# Altium schematic symbol library Sensors.SchLib: 4 symbols
Pins are listed as number, name and electrical type; pins without a type are passive.

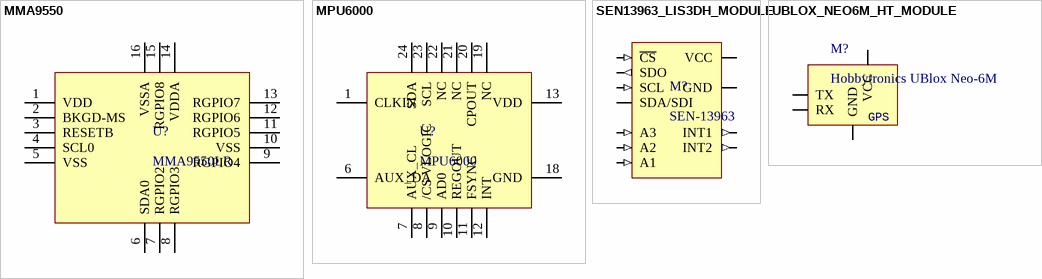
[diagram p0: symbols MMA9550 to UBLOX_NEO6M_HT_MODULE]

## MMA9550
designator U?, comment MMA9550LR
Freescale 3-axis accelerometer
footprint FREESCALE_LGA16_2094 (Freescale LGA16 package layout)
pins: 1 VDD, 2 BKGD-MS, 3 RESETB, 4 SCL0, 5 VSS, 6 SDA0, 7 RGPIO2, 8 RGPIO3, 9 RGPIO4, 10 VSS, 11 RGPIO5, 12 RGPIO6, 13 RGPIO7, 14 VDDA, 15 RGPIO8, 16 VSSA

## MPU6000
designator U?
Invensense MPU6000 6-axis motion sensor; PartNumber: MPU6000
footprint QFN24_4x4_NoHeat_N (QFN, 24-Leads, Body 4.00x4.00mm, Pitch 0.50mm, No Thermal Pad, IPC Medium Density)
pins: 1 CLKIN, 6 AUX_DA, 7 AUX_CL, 8 /CS VLOGIC, 9 AD0, 10 REGOUT, 11 FSYNC, 12 INT, 13 VDD, 18 GND, 19 NC, 20 CPOUT, 21 NC, 22 NC, 23 SCL, 24 SDA

## SEN13963_LIS3DH_MODULE
designator M?, comment SEN-13963
Sparkfun LIS3DH 3-axis accelerometer module; PartNumber: SEN-13963
footprint SEN13963_MODULE (Footprint of SEN13963 module)
pins: 1 INT2 (out), 2 INT1 (out), 3 A3 (in), 4 A2 (in), 5 A1 (in), 8 VCC (power), 9 SDA/SDI (io), 10 SCL (in), 11 SDO (out), 12 ~{CS} (in), GND (power)

## UBLOX_NEO6M_HT_MODULE
designator M?, comment Hobbytronics UBlox Neo-6M
Hobbytronics NEO-6M GPS module; PartNumber: Hobbytronics UBlox Neo-6M
footprint UBLOX_NEO6M_Module (UBlox NEO6M module (Hobbytronics))
pins: 1 GND, 2 TX, 3 RX, 4 VCC
text: GPS